# Altium footprint library Freescale_MMA7660FCR1.PcbLib: 4 footprints
Each footprint in its own frame and in the unit in brackets; x right, y up, seen from the top. Pads: shape width x height; smd on the part's side, far side on the other; paste and mask are expansions set on the pad; w line width, h text height; cw(c..) or ccw(c..) is an arc to the next point about the centre after c.
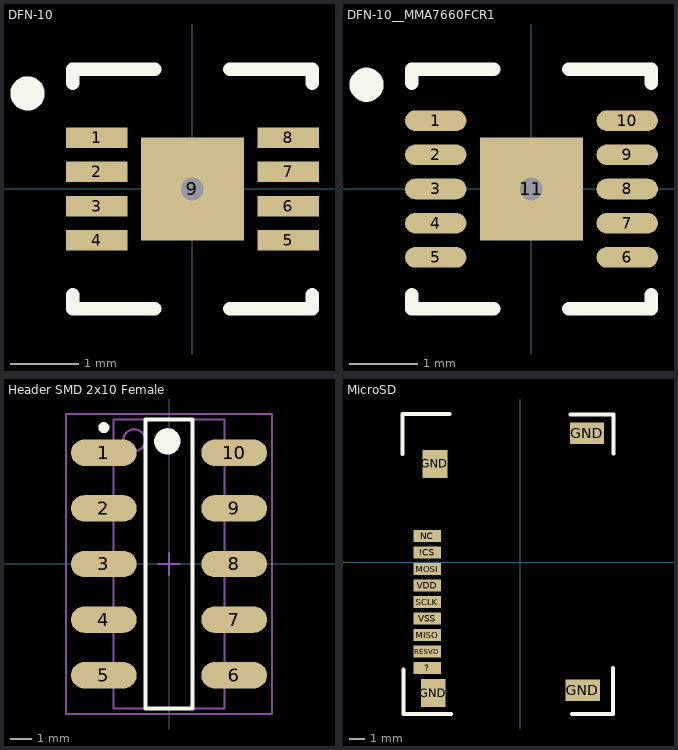
[diagram p0: the footprints below, top view; thin cyan lines are the x and y axes]

## DFN-10 [mm] "DFN, 8-Leads, Body 3.0x3.0mm (max), Pitch 0.50mm, IPC Medium Density"
height 1
pads (9):
  rect 0.9x0.3 smd: 1(-1.4,0.75) 2(-1.4,0.25) 3(-1.4,-0.25) 4(-1.4,-0.75) 5(1.4,-0.75) 6(1.4,-0.25) 7(1.4,0.25) 8(1.4,0.75)
  rect 1.5x1.5 smd: 9(0,0)
via 0,0 diameter 0.66 hole 0.33
Top Overlay:
  circle w0.25: c-2.411,1.397 r0.125
  lines w0.2: -1.75,-1.55 -1.75,-1.75 -0.55,-1.75 ; -1.75,1.55 -1.75,1.75 -0.55,1.75 ; 0.55,-1.75 1.75,-1.75 1.75,-1.55 ; 0.55,1.75 1.75,1.75 1.75,1.55
3D body: height 1, standoff 0.01, extent -1.5,-1.5 1.5,1.5

## DFN-10__MMA7660FCR1 [mm] "DFN, 10-Leads, Body 3.0x3.0mm (max), Pitch 0.50mm, IPC Medium Density"
height 1
pads (11):
  oval 0.9x0.3 smd: 1(-1.4,1) 2(-1.4,0.5) 3(-1.4,0) 4(-1.4,-0.5) 5(-1.4,-1) 6(1.4,-1) 7(1.4,-0.5) 8(1.4,0) 9(1.4,0.5) 10(1.4,1)
  rect 1.5x1.5 smd: 11(0,0)
via 0,0 diameter 0.66 hole 0.33
Top Overlay:
  circle w0.25: c-2.411,1.524 r0.125
  lines w0.2: -1.75,-1.55 -1.75,-1.75 -0.55,-1.75 ; -1.75,1.55 -1.75,1.75 -0.55,1.75 ; 0.55,-1.75 1.75,-1.75 1.75,-1.55 ; 0.55,1.75 1.75,1.75 1.75,1.55
3D body: height 1, standoff 0.01, extent -1.5,-1.5 1.5,1.5

## Header SMD 2x10 Female [mm] "SOP, 10-Leads, Body 13.2x5.1mm (max), Pitch 2.54mm, IPC Medium Density"
height 5
pads (10):
  oval 3x1.2 smd: 1(-2.975,5.08) 2(-2.975,2.54) 3(-2.975,0) 4(-2.975,-2.54) 5(-2.975,-5.08) 6(2.975,-5.08) 7(2.975,-2.54) 8(2.975,0) 9(2.975,2.54) 10(2.975,5.08)
Top Overlay:
  circle w0.6: c-0.075,5.6 r0.3
  circle w0.25: c-2.975,6.23 r0.125
  lines w0.2: -1.075,-6.6 1.075,-6.6 1.075,6.6 -1.075,6.6 -1.075,-6.6
Mechanical 13:
  circle w0.1: c-1.59,5.65 r0.5
  lines w0.1: -2.54,-6.6 2.54,-6.6 2.54,6.6 -2.54,6.6 -2.54,-6.6
Mechanical 15:
  lines w0.1: -0.5,0 0.5,0 ; 0,-0.5 0,0.5 ; -4.7,-6.85 4.7,-6.85 4.7,6.85 -4.7,6.85 -4.7,-6.85
3D body: height 5, standoff 0.1, extent -2.54,-6.6 2.54,6.6

## MicroSD [mil]
pads (13):
  rect 70x30 smd: !CS(-237,25) ?(-237,-269) MISO(-237,-185) MOSI(-237,-17) NC(-237,67) RESVD(-237,-227) SCLK(-237,-101) VDD(-237,-59) VSS(-237,-143)
  rect 63x71 smd: GND(-222,-333) GND(-217.5,251)
  rect 87x55 smd: GND(159,-325.5) GND(170,328.5)
Top Overlay:
  lines w10: -300,276 -300,378 -181,378 ; -298,-272 -298,-386 -177,-386 ; 128,377 237,377 ; 131,-386 236,-386 236,-269 ; 237,277 237,376